# EAGLE library part CC1070 (library chipcon-ti-v2-alliv)
Single Chip Low Power RF Transmitter for Narrowband Systems
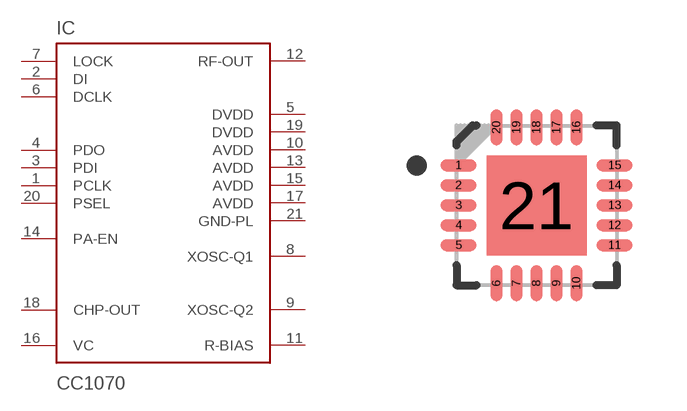
[diagram p18: symbol with the pads of QFN50P400X400X90-21N; footprint QFN50P400X400X90-21N]

Designator prefix IC

## CC1070  [QFN50P400X400X90-21N]
1  PCLK  in
2  DI  in
3  PDI  in
4  PDO  out
5  DVDD  pwr
6  DCLK  out
7  LOCK  out
8  XOSC-Q1  in
9  XOSC-Q2  out
10  AVDD  pwr
11  R-BIAS  out
12  RF-OUT  out
13  AVDD  pwr
14  PA-EN  out
15  AVDD  pwr
16  VC  out
17  AVDD  pwr
18  CHP-OUT  out
19  DVDD  pwr
20  PSEL  in
21  GND-PL  pwr

## Footprint QFN50P400X400X90-21N (pad centres in mm)
QFN,0.50mm pitch,square;20 pin,4.00mm L X 4.00mm W X 0.90mm H body (w/thermal tab) IPC7351A for VQFN20
smd 0.9 x 0.3: 1 -1.95,1; 2 -1.95,0.5; 3 -1.95,0; 4 -1.95,-0.5; 5 -1.95,-1; 11 1.95,-1; 12 1.95,-0.5; 13 1.95,0; 14 1.95,0.5; 15 1.95,1
smd 0.3 x 0.9: 6 -1,-1.95; 7 -0.5,-1.95; 8 0,-1.95; 9 0.5,-1.95; 10 1,-1.95; 16 1,1.95; 17 0.5,1.95; 18 0,1.95; 19 -0.5,1.95; 20 -1,1.95
smd 2.5 x 2.5: 21 0,0